# EAGLE library part MCP79410-ISN (library Microchip-Tim)
Microchip Real Time Clock Calendar with 1K battery backed RAM
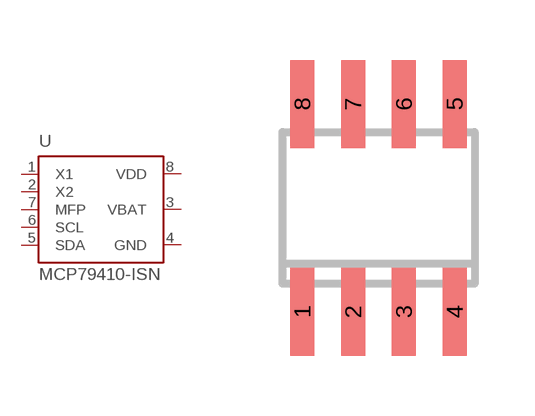
[diagram p1: symbol with the pads of SO8; footprint SO8]

Designator prefix U

## MCP79410-ISN  [SO8]
1  X1  pas
2  X2  pas
3  VBAT  pwr
4  GND  pwr
5  SDA
6  SCL
7  MFP
8  VDD  pwr

## Footprint SO8 (pad centres in mm)
smd 0.6 x 2.2: 1 -1.905,-2.6; 2 -0.635,-2.6; 3 0.635,-2.6; 4 1.905,-2.6; 5 1.905,2.6; 6 0.635,2.6; 7 -0.635,2.6; 8 -1.905,2.6